# Altium footprint library 430450827.PcbLib: 1 footprints
Each footprint in its own frame and in the unit in brackets; x right, y up, seen from the top. Pads: shape width x height; smd on the part's side, far side on the other; paste and mask are expansions set on the pad; w line width, h text height; cw(c..) or ccw(c..) is an arc to the next point about the centre after c.
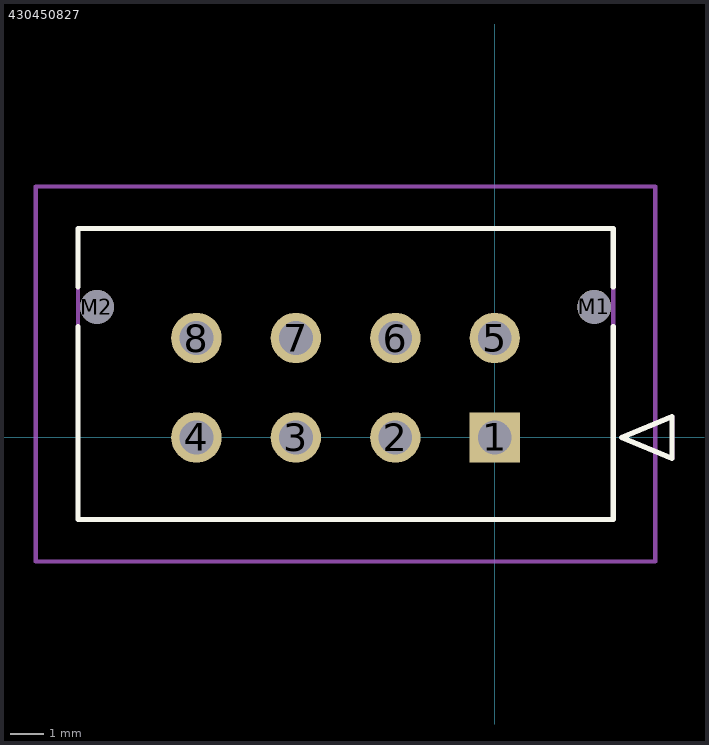
[diagram p0: the footprint, top view; thin cyan lines are the x and y axes]

## 430450827 [mm]
pads (10):
  rect 1.52x1.52 hole 1.02 mask+0.076: 1(0,0)
  round 1.52 hole 1.02 mask+0.076: 2(-3,0) 3(-6,0) 4(-9,0) 5(0,3) 6(-3,3) 7(-6,3) 8(-9,3)
  round 1.02 hole 1.02 unplated mask+0.076: M1(3,3.94) M2(-12,3.94)
Top Overlay:
  lines w0.152: -12.575,3.345 -12.575,-2.47 3.575,-2.47 3.575,3.345 ; -12.575,4.535 -12.575,6.3 3.575,6.3 3.575,4.535 ; 3.829,0 5.353,0.635 5.353,-0.635 3.829,0
Mechanical 13:
  lines w0.127: -12.575,-2.47 3.575,-2.47 3.575,6.3 -12.575,6.3 -12.575,-2.47 ; 3.829,0 5.353,0.635 5.353,-0.635 3.829,0
Mechanical 15:
  lines w0.127: -13.845,-3.74 -13.845,7.57 4.845,7.57 4.845,-3.74 -13.845,-3.74
3D body "430450827--3DModel-STEP-390490.STEP": height 9.92, standoff -3.17, extent -12.603,-2.522 3.575,6.3